# Altium footprint library FootPrintLib_5.PCBLIB: 254 footprints (part 12 of 16)
Each footprint in its own frame and in the unit in brackets; x right, y up, seen from the top. Pads: shape width x height; smd on the part's side, far side on the other; paste and mask are expansions set on the pad; w line width, h text height; cw(c..) or ccw(c..) is an arc to the next point about the centre after c.
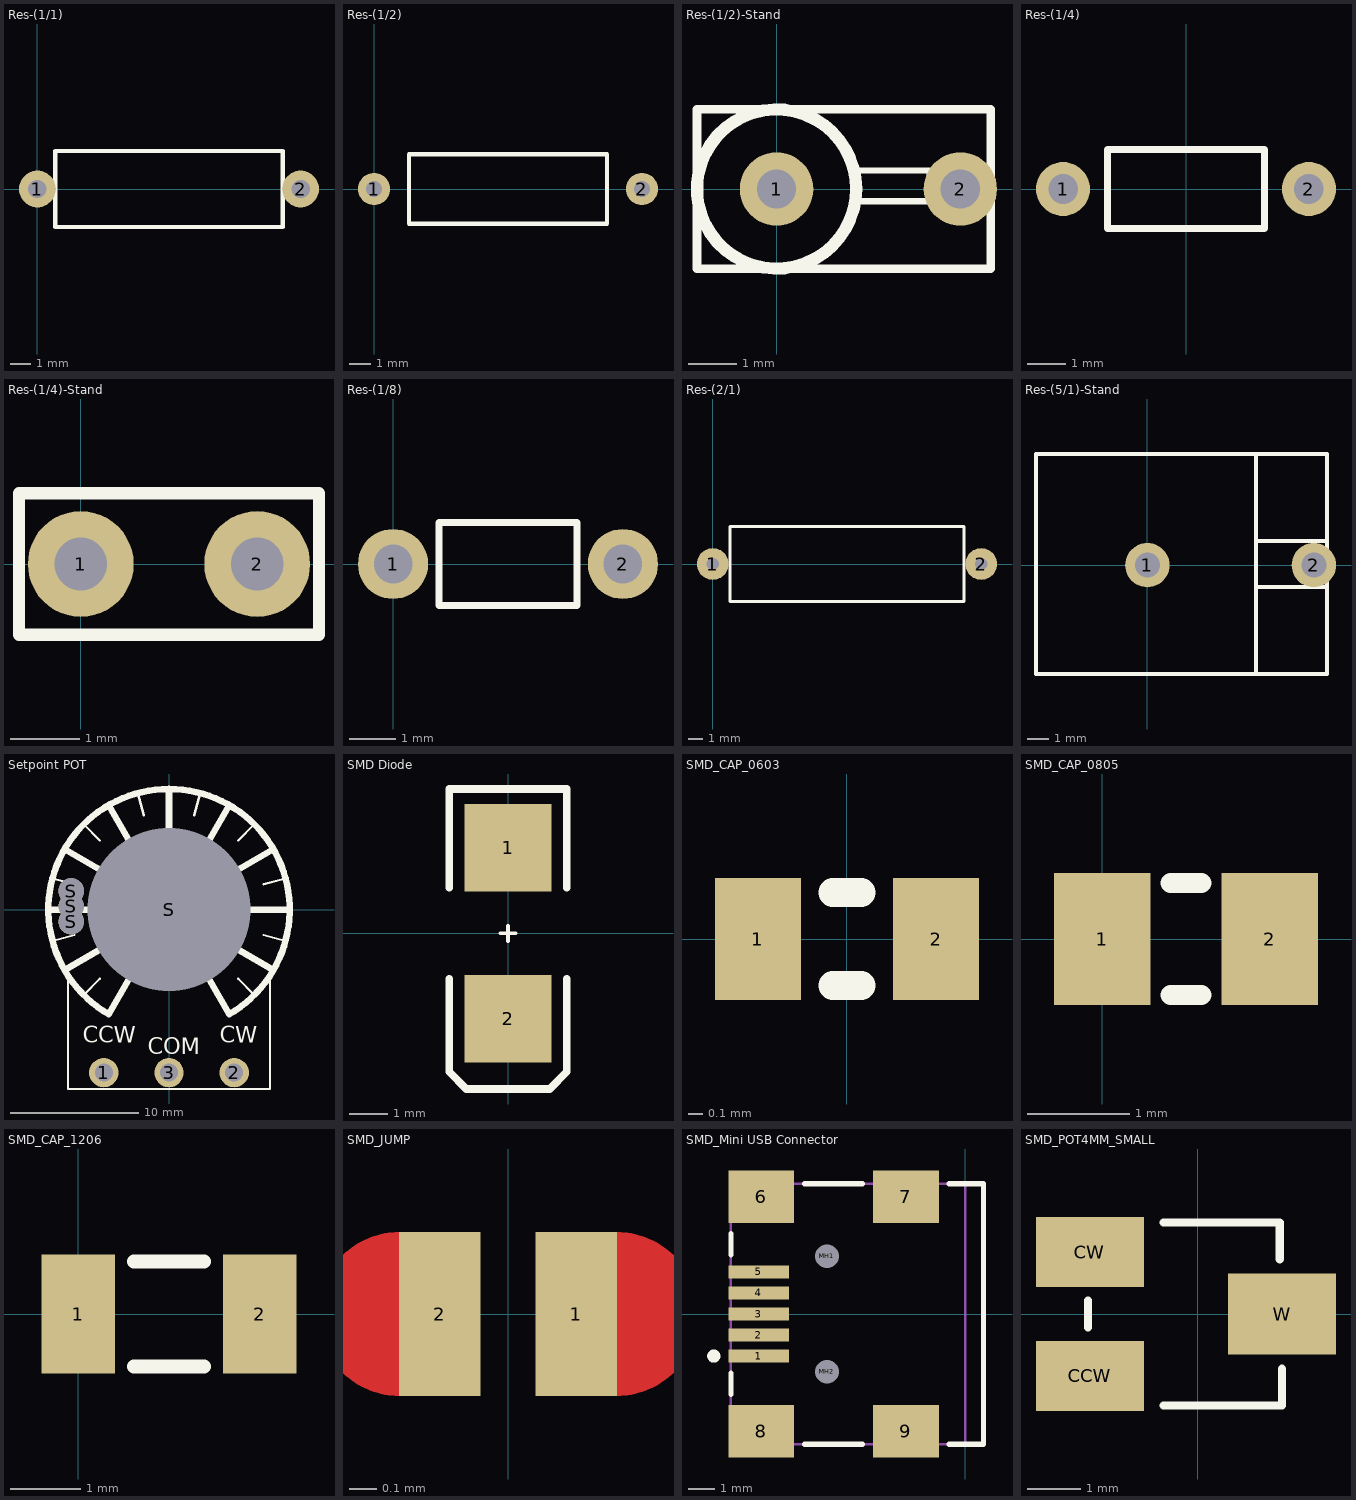
[diagram p11: the footprints below, top view; thin cyan lines are the x and y axes]

## Res-(1/1) [mil]
pads (2):
  round 70 hole 35: 1(0,0) 2(500,0)
Top Overlay:
  lines w7.87: 34,-72 466,-72 466,72 34,72 34,-72
3D body "Res_Normal (1W).STEP": height 150.74, standoff -78.74, extent -10.5,-71 514.5,73

## Res-(1/2) [mil]
pads (2):
  round 60 hole 30: 1(0,0) 2(500,0)
Top Overlay:
  lines w7.87: 65,-65 435,-65 435,65 65,65 65,-65
3D body: height 82.5, standoff 57.5, extent 487.63,-12.44 512.5,12.45
3D body: height 70, standoff -80, extent 487.6,-12.47 512.5,12.48
3D body: height 82.5, standoff 57.5, extent -12.37,-12.44 12.5,12.45
3D body: height 82.4, standoff 57.5, extent 0,-12.48 500,12.48
3D body: height 70, standoff -80, extent -12.4,-12.47 12.5,12.48
3D body: height 134.49, standoff 5, extent 65,-65 435,64.74
3D body: height 135.48, standoff 4, extent 225,-66 255,65.74
3D body: height 135.48, standoff 4, extent 100,-66 130,65.74
3D body: height 135.48, standoff 4, extent 162.5,-66 192.5,65.74
3D body: height 135.48, standoff 4, extent 365,-66 395,65.74

## Res-(1/2)-Stand [mil]
pads (2):
  round 60 hole 32: 1(0,0) 2(150,0)
Top Overlay:
  circle w10: c0,0 r65
  lines w5: 65,-10 125,-10 125,15 65,15
  lines w7: -65,-65 -65,65 175,65 175,-65 -65,-65
3D body: height 350, standoff 320, extent -65.48,-65.87 66,65.87
3D body: height 180, standoff 150, extent -65.48,-65.87 66,65.87
3D body: height 130, standoff 100, extent -65.48,-65.87 66,65.87
3D body: height 80, standoff 50, extent -65.48,-65.87 66,65.87
3D body: height 433, standoff 407, extent 137.14,-12.95 163,12.94
3D body: height 420, standoff -80, extent -12.89,-12.97 13,12.98
3D body: height 380, standoff 20, extent -64.48,-64.87 65,64.87
3D body: height 432.9, standoff 407, extent 0,-12.97 150,12.97
3D body: height 420, standoff -80, extent 137.11,-12.97 163.01,12.98
3D body: height 433, standoff 407, extent -12.86,-12.94 13,12.95

## Res-(1/4) [mil]
pads (2):
  round 55 hole 30: 1(-125,0) 2(125,0)
Top Overlay:
  lines w7.09: -80,-40 80,-40 80,40 -80,40 -80,-40
3D body "Res_Normal (0.25W).STEP": height 115.05, standoff -39.37, extent -135,-36.48 135,36

## Res-(1/4)-Stand [mil]
pads (2):
  round 60 hole 30: 1(0,0) 2(100,0)
Top Overlay:
  lines w7: -35,-40 -35,40 135,40 135,-40 -35,-40
3D body "Res 0.25W_Stand.STEP": height 287.32, standoff -57.17, extent -35.08,-35.48 111.08,37

## Res-(1/8) [mil]
pads (2):
  round 60 hole 33: 1(0,0) 2(196.85,0)
Top Overlay:
  lines w5.91: 39.37,-35.43 39.37,35.43 157.48,35.43 157.48,-35.43 39.37,-35.43
3D body "Res_18.STEP": height 76.63, standoff -32.9, extent -9.84,-31.5 206.69,29.14

## Res-(2/1) [mm]
pads (2):
  round 2.2 hole 0.85: 1(0,0) 2(18.6,0)
Top Overlay:
  lines w0.2: 1.2,-2.6 17.4,-2.6 17.4,2.6 1.2,2.6 1.2,-2.6

## Res-(5/1)-Stand [mil]
pads (2):
  round 80 hole 45: 1(0,0) 2(300,0)
Top Overlay:
  lines w7: 195.69,-196 195.69,200 ; 195.69,-39.37 324,-39.37 ; 195.69,43.31 324,43.31 ; -200.79,-196 324,-196 324,200 -200.79,200 -200.79,-196
3D body "5W Res.STEP": height 907.48, standoff -94.49, extent -195.48,-194 319.48,199.7

## Setpoint POT [mil]
pads (7):
  round 90 hole 55: 1(-200,-500) 2(200,-500) 3(0,-500)
  round 78.74 hole 78.74: S(-300,-37) S(-300,10) S(-300,57)
  round 492.13 hole 500: S(0,0)
Top Overlay:
  lines w7: -357.39,-95.76 -289.78,-77.65 ; -357.39,95.76 -289.78,77.65 ; -310,-200 -310,-550 310,-550 310,-200 ; -261.63,-261.63 -212.13,-212.13 ; -261.63,261.63 -212.13,212.13 ; -95.76,357.39 -77.65,289.78 ; 77.65,289.78 95.76,357.39 ; 212.13,-212.13 261.63,-261.63 ; 212.13,212.13 261.63,261.63 ; 289.78,-77.65 357.39,-95.76 ; 289.78,77.65 357.39,95.76
  lines w20: -370,0 -250,0 ; -320.43,-185 -216.51,-125 ; -320.43,185 -216.51,125 ; -185,320.43 -125,216.51 ; -125,-216.51 -185,-320.43 cw(c0,0) 185,-320.43 125,-216.51 ; 0,250 0,370 ; 125,216.51 185,320.43 ; 216.51,-125 320.43,-185 ; 216.51,125 320.43,185 ; 250,0 370,0
  text "COM" at -65,-443 h50
  text "CW" at 155,-408 h50
  text "CCW" at -264,-408 h50
3D body "POT.STEP": height -636.77, standoff -1642.99, extent -310,-661 310,308.35
3D body "volome cover2.STEP": height 1728.35, standoff 940.94, extent -298.41,-333.62 298.84,289.78

## SMD Diode [mm]
pads (2):
  rect 2.3x2.3 smd: 1(0,2.25) 2(0,-2.25)
Top Overlay:
  lines w0.1: -0.2,0 0.2,0 ; 0,-0.2 0,0.2
  lines w0.2: -1.55,-1.2 -1.55,-3.65 -1.1,-4.1 1.1,-4.1 1.55,-3.65 1.55,-1.2 ; -1.55,1.2 -1.55,3.8 1.55,3.8 1.55,1.2
3D body "User Library-Diode Molded Body.STEP": height 2.31, standoff 0.02, extent -1.321,-2.565 1.279,2.535

## SMD_CAP_0603 [mm]
pads (2):
  rect 0.6x0.85 smd: 1(-0.622,0) 2(0.622,0)
Top Overlay:
  lines w0.2: -0.1,-0.325 0.1,-0.325 ; -0.1,0.325 0.1,0.325
3D body "cap 0603.STEP": height 0.6, standoff 0, extent -0.762,-0.381 0.762,0.381

## SMD_CAP_0805 [mm]
pads (2):
  rect 0.95x1.3 smd: 1(0,0) 2(1.65,0)
Top Overlay:
  lines w0.2: 0.675,-0.55 0.975,-0.55 ; 0.675,0.55 0.975,0.55
3D body "cap 0805.STEP": height 0.65, standoff 0, extent -0.191,-0.635 1.841,0.635

## SMD_CAP_1206 [mm]
pads (2):
  rect 1.05x1.7 smd: 1(0,0) 2(2.596,0)
Top Overlay:
  lines w0.2: 0.798,-0.75 1.798,-0.75 ; 0.798,0.75 1.798,0.75
3D body "cap 1206.STEP": height 0.75, standoff 0, extent -0.224,-0.775 2.824,0.749

## SMD_JUMP [mm]
pads (2):
  rect 0.3x0.6 smd: 1(0.25,0) 2(-0.25,0)
Top Layer:
  lines w0.3: -0.4,-0.15 cw(c-0.4,0) -0.4,0.15 ; 0.4,-0.15 ccw(c0.4,0) 0.4,0.15

## SMD_Mini USB Connector [mm]
pads (11):
  rect 2.3x0.5 smd: 1(-7.85,-1.6) 2(-7.85,-0.8) 3(-7.85,0) 4(-7.85,0.8) 5(-7.85,1.6)
  rect 2.5x2 smd: 6(-7.75,4.45) 7(-2.25,4.45) 8(-7.75,-4.45) 9(-2.25,-4.45)
  round 0.6 hole 0.9 unplated: MH1(-5.25,2.2) MH2(-5.25,-2.2)
Top Overlay:
  circle w0.25: c-9.55,-1.6 r0.125
  lines w0.2: -8.9,-3.05 -8.9,-2.25 ; -8.9,2.25 -8.9,3.05 ; -6.1,-4.95 -3.9,-4.95 ; -6.1,4.95 -3.9,4.95 ; -0.6,-4.95 0.7,-4.95 0.7,4.95 -0.6,4.95
Mechanical 1:
  lines w0.1: 0,-4.95 0,4.95
  text "PCB Edge" at 0.432,-4.036 h0.25
Mechanical 13:
  lines w0.1: -8.9,-4.95 -8.9,4.95 0.7,4.95 0.7,-4.95 -8.9,-4.95
3D body "Samtec-DEFAULT.STEP": height 5.8, standoff -1.8, extent -6.257,-5.644 40.343,5.156
3D body "usb_a-usb_b-m5-smd-c.STEP": height 3.93, standoff -1, extent -8.6,-4.95 0.65,4.95

## SMD_POT4MM_SMALL [mm] "Square Trimming Potentiometer"
pads (3):
  rect 2x1.3 smd: CCW(-2,-1.15) CW(-2,1.15)
  rect 2x1.5 smd: W(1.568,0)
Top Overlay:
  lines w0.15: -2.032,-0.254 -2.032,0.254 ; -0.635,-1.7 1.568,-1.7 1.568,-1.016 ; -0.635,1.7 1.524,1.7 1.524,1.016
3D body "TRIMMER_PVG3A.STEP": height 2, standoff 0, extent -2.032,-1.7 1.568,1.7